# EAGLE library part 804-110/000-006 (library con-wago_804)
Serie 804, Stand: 01.01.2012. Die jeweils aktuellen Daten zu diesem Artikel finden Sie in unserem Produktkatalog, den Sie unter www.wago.com einsehen können. As of: 01/01/2012. Please find the newest data for this article in our product catalogue, which can be viewed under www.wago.com.
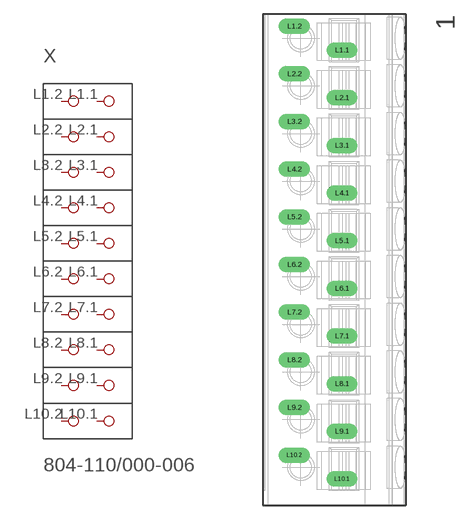
[diagram p55: symbol with the pads of P-804-110; footprint P-804-110]

Designator prefix X

## 804-110/000-006  [P-804-110]
L1.1  P1.1
L1.2  P1.2
L2.1  P2.1
L2.2  P2.2
L3.1  P3.1
L3.2  P3.2
L4.1  P4.1
L4.2  P4.2
L5.1  P5.1
L5.2  P5.2
L6.1  P6.1
L6.2  P6.2
L7.1  P7.1
L7.2  P7.2
L8.1  P8.1
L8.2  P8.2
L9.1  P9.1
L9.2  P9.2
L10.1  P10.1
L10.2  P10.2

## Footprint P-804-110 (pad centres in mm)
drill 1.1 long: L1.1 0.8,22; L1.2 -4.2,24.5; L2.1 0.8,17; L2.2 -4.2,19.5; L3.1 0.8,12; L3.2 -4.2,14.5; L4.1 0.8,7; L4.2 -4.2,9.5; L5.1 0.8,2; L5.2 -4.2,4.5; L6.1 0.8,-3; L6.2 -4.2,-0.5; L7.1 0.8,-8; L7.2 -4.2,-5.5; L8.1 0.8,-13; L8.2 -4.2,-10.5; L9.1 0.8,-18; L9.2 -4.2,-15.5; L10.1 0.8,-23; L10.2 -4.2,-20.5